# Altium schematic symbol library ISO7742QDWRQ1.SchLib: 1 symbol
Pins are listed as number, name and electrical type; pins without a type are passive.

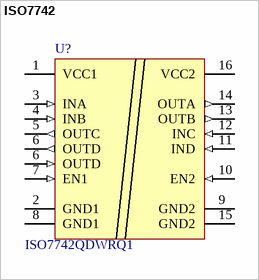
[diagram p0: symbol ISO7742]

## ISO7742
designator U?, comment ISO7742QDWRQ1
footprint SOIC127P1030X265-16N
pins: 1 VCC1 (power), 2 GND1 (power), 3 INA (in), 4 INB (in), 5 OUTC (out), 6 OUTD (out), 6 OUTD (in), 7 EN1 (in), 8 GND1 (power), 9 GND2 (power), 10 EN2 (in), 11 IND (in), 12 INC (in), 13 OUTB (out), 14 OUTA (out), 15 GND2 (power), 16 VCC2 (power)